# EAGLE library part AYF531635 (library AYF531635)
Panasonic Y5B 0.5mm Pitch 16 Way SMT Female FPC Connector Source: Datasheet <https://componentsearchengine.com/Datasheets/1/AYF531635.pdf>
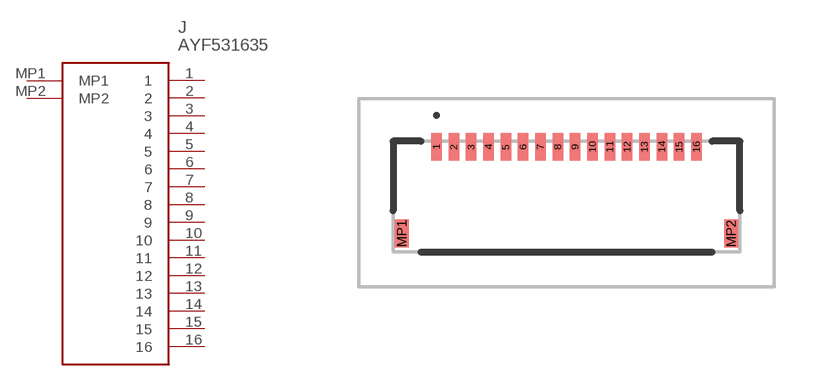
[diagram p0: symbol with the pads of AYF531635; footprint AYF531635]

Designator prefix J

## AYF531635 (Description: Panasonic Y5B 0.5mm Pitch 16 Way SMT Female FPC Connector; Height: 2.06mm; Manufacturer_Name: Panasonic; Manufacturer_Part_Number: AYF531635; Mouser_Part_Number: 769-AYF531635; Mouser_Price-Stock: https://www.mouser.com/Search/Refine.aspx?Keyword=769-AYF531635)  [AYF531635]
1  1
2  2
3  3
4  4
5  5
6  6
7  7
8  8
9  9
10  10
11  11
12  12
13  13
14  14
15  15
16  16
MP1  MP1
MP2  MP2

## Footprint AYF531635 (pad centres in mm)
AYF531635-1
smd 0.3 x 0.8: 1 -3.75,1.44; 2 -3.25,1.44; 3 -2.75,1.44; 4 -2.25,1.44; 5 -1.75,1.44; 6 -1.25,1.44; 7 -0.75,1.44; 8 -0.25,1.44; 9 0.25,1.44; 10 0.75,1.44; 11 1.25,1.44; 12 1.75,1.44; 13 2.25,1.44; 14 2.75,1.44; 15 3.25,1.44; 16 3.75,1.44
smd 0.4 x 0.8: MP1 -4.75,-1.06; MP2 4.75,-1.06